# EAGLE library part MCP73833-AMI/UN (library 2023-05-10_02-14-07_Library)
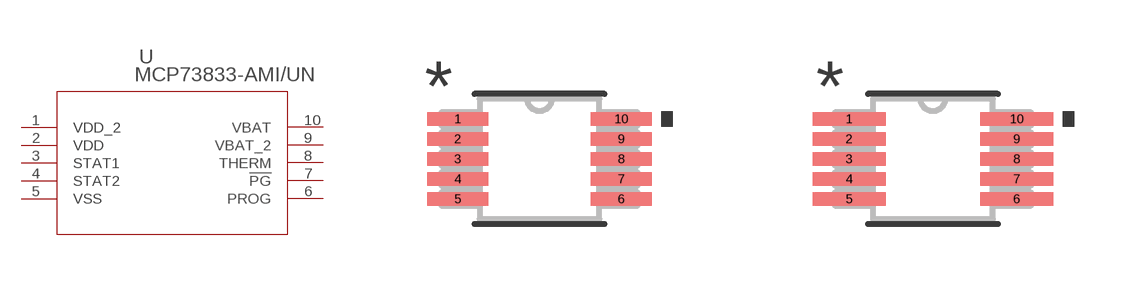
[diagram p0: symbol with the pads of MSOP10_MC_MCH; footprints MSOP10_MC_MCH, MSOP10_MC_MCH-M]

Designator prefix U

## MCP73833-AMI/UNMSOP10_MC_MCH (Copyright: Copyright (C) 2023 Ultra Librarian. All rights reserved.; Manufacturer_Part_Number: MCP73833-AMI/UN; Mfr_Name: Microchip)  [MSOP10_MC_MCH]
1  VDD_2  pas
2  VDD  pas
3  STAT1  pas
4  STAT2  pas
5  VSS  pas
6  PROG  pas
7  !PG  pas
8  THERM  pas
9  VBAT_2  pas
10  VBAT  pas

## MCP73833-AMI/UNMSOP10_MC_MCH-M (Copyright: Copyright (C) 2023 Ultra Librarian. All rights reserved.; Manufacturer_Part_Number: MCP73833-AMI/UN; Mfr_Name: Microchip)  [MSOP10_MC_MCH-M]
Pads as for MSOP10_MC_MCH

## MCP73833-AMI/UNMSOP10_MC_MCH-L (Copyright: Copyright (C) 2023 Ultra Librarian. All rights reserved.; Manufacturer_Part_Number: MCP73833-AMI/UN; Mfr_Name: Microchip)  [MSOP10_MC_MCH-L]
Pads as for MSOP10_MC_MCH

## Footprint MSOP10_MC_MCH (pad centres in mm)
smd 1.524 x 0.33: 1 -2.045,1; 2 -2.045,0.5; 3 -2.045,0; 4 -2.045,-0.5; 5 -2.045,-1; 6 2.045,-1; 7 2.045,-0.5; 8 2.045,0; 9 2.045,0.5; 10 2.045,1

## Footprint MSOP10_MC_MCH-M (pad centres in mm)
smd 1.829 x 0.33: 1 -2.095,1; 2 -2.095,0.5; 3 -2.095,0; 4 -2.095,-0.5; 5 -2.095,-1; 6 2.095,-1; 7 2.095,-0.5; 8 2.095,0; 9 2.095,0.5; 10 2.095,1

## Footprint MSOP10_MC_MCH-L (pad centres in mm)
smd 1.219 x 0.279: 1 -1.994,1; 2 -1.994,0.5; 3 -1.994,0; 4 -1.994,-0.5; 5 -1.994,-1; 6 1.994,-1; 7 1.994,-0.5; 8 1.994,0; 9 1.994,0.5; 10 1.994,1